# Altium schematic symbol library Schlib1.SchLib: 2 symbols
Pins are listed as number, name and electrical type; pins without a type are passive.

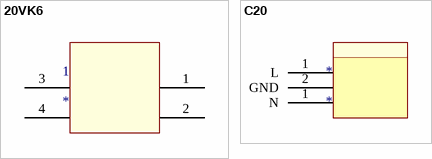
[diagram p0: symbols 20VK6 to C20]

## 20VK6
designator 1
pins: 1 5, 2 6, 3, 4

## C20
designator *
pins: 1 L (power), 1 N (power), 2 GND (power)